# Altium schematic symbol library Components.SchLib: 85 symbols
Pins are listed as number, name and electrical type; pins without a type are passive.

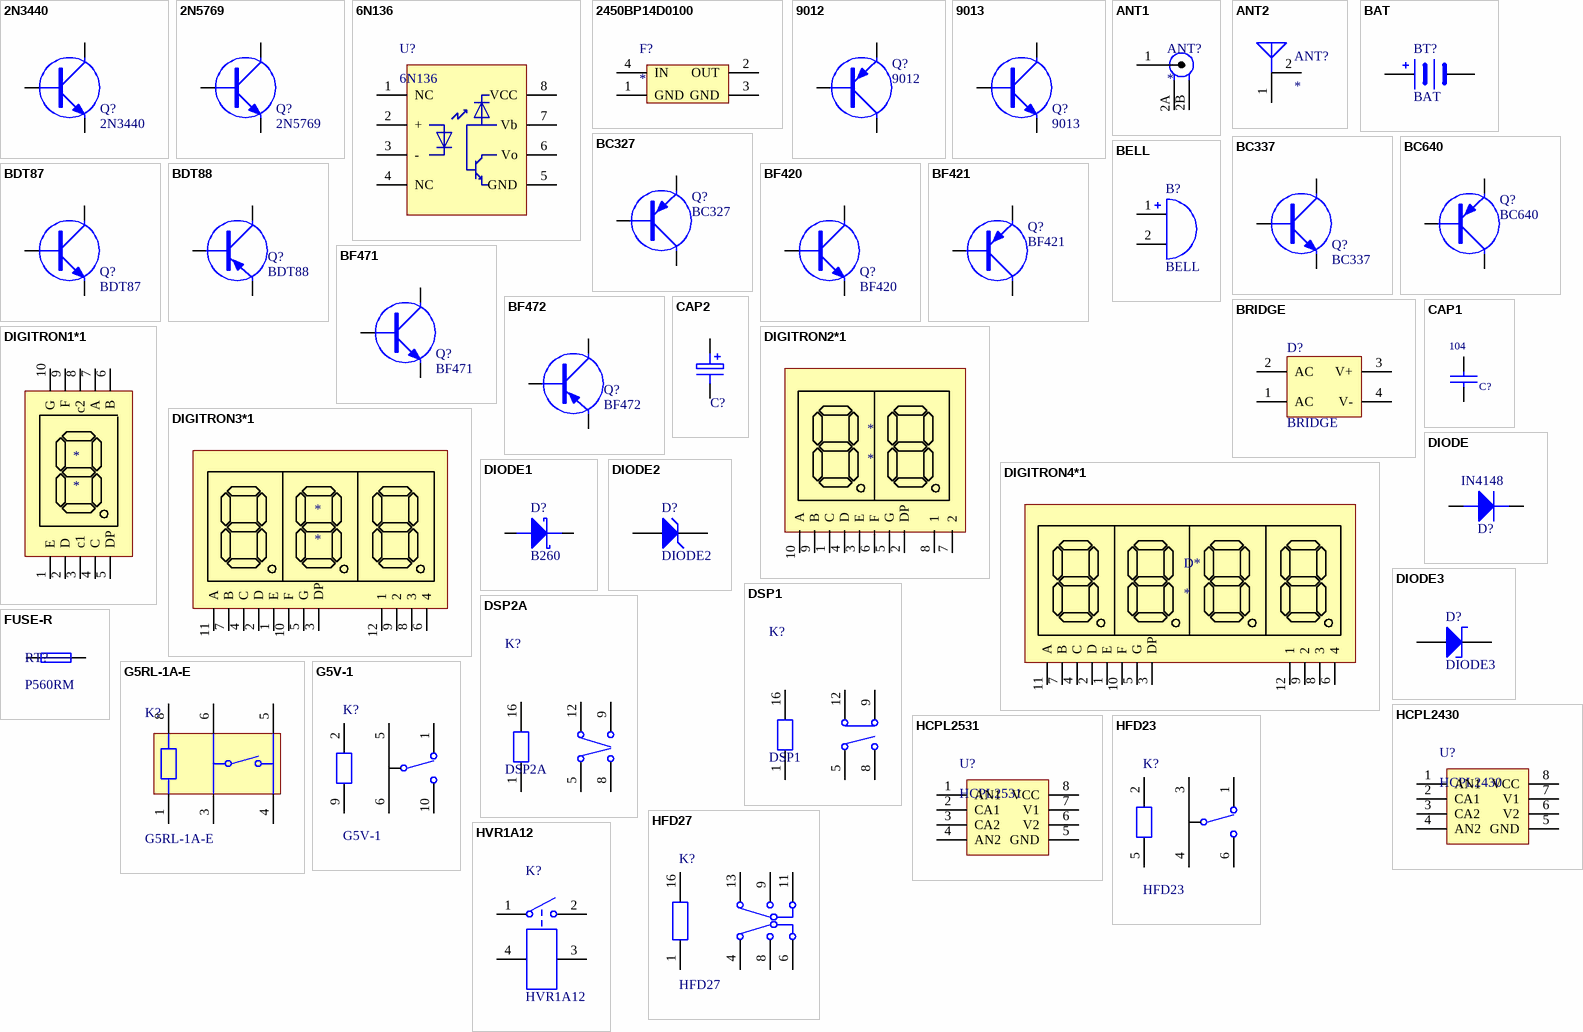
[diagram p0: symbols 2N3440 to HVR1A12]

## 2N3440
designator Q?
NPN Transistor
footprint TO-39 (Can; 3 Leads; Pin Circle Dia. 5.08 mm; Lead Dia. 0.48 mm (max))
pins: 1 E, 2 B, 3 C

## 2N5769
designator Q?
NPN Transistor
footprint TO-92
pins: 1 E, 2 B, 3 C

## 6N136
designator U?
footprint DIP8
pins: 1 NC, 2 +, 3 -, 4 NC, 5 GND, 6 Vo, 7 Vb, 8 VCC

## 2450BP14D0100
designator F?
2450BP14D0100
footprint 2450BP14D0100 (2450BP14D0100   RF  Filter)
pins: 1 GND, 2 OUT, 3 GND, 4 IN

## 9012
designator Q?
PNP Transistor
footprint SOT-23
pins: 1 B, 2 E, 3 C

## 9013
designator Q?
NPN Transistor
footprint SOT-23
pins: 1 B, 2 E, 3 C

## ANT1
designator ANT?
ANT
footprint CRF-101-001
pins: 1, 2A, 2B

## ANT2
designator ANT?
ANT
footprint pcb_ant_sm
pins: 1, 2

## BAT
designator BT?
Multicell Battery; Published: 24-Mar-1999; LatestRevisionDate: 17-Jul-2002; LatestRevisionNote: Re-released for DXP Platform.; PackageReference: BAT-2; Publisher: Altium Limited
footprint CR1220 (Battery Holder CR1220 3V)
pins: 1 +, 2 -

## BC327
designator Q?
PNP Transistor
footprint TO-92
pins: 1 C, 2 B, 3 E

## BC337
designator Q?
NPN Transistor
footprint TO-92
pins: 1 C, 2 B, 3 E

## BC640
designator Q?
PNP Transistor
footprint TO-92
pins: 1 E, 2 C, 3 B

## BDT87
designator Q?
NPN Transistor
footprint TO-220A2
pins: 1 B, 2 C, 3 E

## BDT88
designator Q?
PNP Transistor
footprint TO-220A2
pins: 1 B, 2 C, 3 E

## BELL
designator B?
Electrical Bell; Published: 24-Mar-1999; LatestRevisionDate: 17-Jul-2002; LatestRevisionNote: Re-released for DXP Platform.; PackageReference: PIN2; Publisher: Altium Limited
footprint BELL (bell 12*9.5mm)
pins: 1 A, 2 B

## BF420
designator Q?
NPN Transistor
footprint TO-92
pins: 1 E, 2 C, 3 B

## BF421
designator Q?
PNP Transistor
footprint TO-92
pins: 1 E, 2 C, 3 B

## BF471
designator Q?
NPN Transistor
footprint TO-126A2
pins: 1 E, 2 C, 3 B

## BF472
designator Q?
PNP Transistor
footprint TO-126A2
pins: 1 E, 2 C, 3 B

## BRIDGE
designator D?
Diode Bridge; Published: 24-Mar-1999; LatestRevisionDate: 17-Jul-2002; LatestRevisionNote: Re-released for DXP Platform.; PackageReference: D-46_6A; Publisher: Altium Limited
footprint SOIC-4
pins: 1 AC, 2 AC, 3 V+, 4 V-

## CAP1
designator C?, comment 104
Capacitor
footprint 0402C (1.0*0.5mm)
footprint 0603C (1.6*0.8mm)
footprint 0805C (2.0*1.25mm)
footprint 1210C (3.2*2.5mm)
footprint 1206C (3.2*1.6mm)
footprint CAP 5.08 (5.0*10mm)
pins: 1, 2

## CAP2
designator C?, comment 10uF  (value not drawn)
Electrolytic Capacitor
footprint CAP 2.0/5.0 (2.0*5.0mm)
footprint CAP 2.5/6.5 (2.5*6.5mm)
footprint CAP 3.5/8.0 (3.5*8.0mm)
footprint CAP 5.0/10 (5.0*10mm)
footprint CAP 5.0/13 (5.0*13mm)
footprint CAP 7.5/16 (7.5*16mm)
footprint 6032C (60*32mm)
footprint ALCAP10 (10mm)
footprint ALCAP8 (8mm)
footprint ALCAP6 (6mm)
footprint 7227C
footprint 7343C (73*43mm)
footprint 3528C (35*28mm)
footprint 3216C (32*16mm)
pins: 1, 2

## DIGITRON1*1
designator *
pins: 1 E, 2 D, 3 c1, 4 C, 5 DP, 6 B, 7 A, 8 c2, 9 F, 10 G

## DIGITRON2*1
designator *
pins: 1 C, 2 DP, 3 E, 4 D, 5 G, 6 F, 7 2, 8 1, 9 B, 10 A

## DIGITRON3*1
designator *
footprint DIGITRON3
pins: 1 E, 2 D, 3 DP, 4 C, 5 G, 6 4, 7 B, 8 3, 9 2, 10 F, 11 A, 12 1

## DIGITRON4*1
designator D*
footprint DIGITRON4
pins: 1 E, 2 D, 3 DP, 4 C, 5 G, 6 4, 7 B, 8 3, 9 2, 10 F, 11 A, 12 1

## DIODE
designator D?, comment IN4148
Diode
footprint 0603D (1.6*0.8mm SOD523)
footprint 0805D (2.0*1.25mm SOD323)
footprint 1206D (3.2*1.6mm)
footprint LL-34 (3.5*1.5mm)
footprint DIODE0.4
pins: 1 A, 2 K

## DIODE1
designator D?, comment B260
Schottky Diode; Published: 8-Jun-2000; LatestRevisionDate: 17-Jul-2002; LatestRevisionNote: Re-released for DXP Platform.; PackageReference: SMB; Publisher: Altium Limited; Code_JEDEC: DO-214-AA
footprint SMA (5.28*2.90mm)
footprint SMB (5.59*3.94mm)
footprint SMC (8.13*6.22)
footprint DIODE0.4
pins: 1 A, 2 K

## DIODE2
designator D?
Zener Diode; Published: 8-Jun-2000; LatestRevisionDate: 17-Jul-2002; LatestRevisionNote: Re-released for DXP Platform.; PackageReference: DIODE-0.7; Publisher: Altium Limited; PackageDescription: Diode, Thru-Hole; 2 Leads; 0.7 in Pin Spacing
signal-integrity model D Zener
footprint DIODE0.4
pins: 1 A, 2 K

## DIODE3
designator D?
Zener Diode; Published: 15-Apr-2002; LatestRevisionDate: 17-Jul-2002; LatestRevisionNote: Re-released for DXP Platform.; PackageReference: DIODE-0.4; Publisher: Altium Limited; PackageDescription: Diode, Thru-Hole; 2 Leads; 0.4 in Pin Spacing
footprint DIODE0.4
pins: 1 A, 2 K

## DSP1
designator K?
Published: 24-Mar-1999; LatestRevisionDate: 17-Jul-2002; LatestRevisionNote: Re-released for DXP Platform.; PackageReference: MODULE5B; Publisher: Altium Limited
footprint DSP2A
pins: 1, 5, 8, 9, 12, 16

## DSP2A
designator K?
Published: 24-Mar-1999; LatestRevisionDate: 17-Jul-2002; LatestRevisionNote: Re-released for DXP Platform.; PackageReference: MODULE5B; Publisher: Altium Limited
footprint DSP2A
pins: 1, 5, 8, 9, 12, 16

## FUSE-R
designator RT?, comment P560RM
footprint PTC (Resettable fuse)
footprint 1210 (3.2*2.5mm)
footprint 0805 (2.0*1.25mm)
footprint 1812 (4.8*3.2mm)
footprint FUSE15 (5*20  15mm)
pins: 1, 2

## G5RL-1A-E
designator K?
Published: 24-Mar-1999; LatestRevisionDate: 17-Jul-2002; LatestRevisionNote: Re-released for DXP Platform.; PackageReference: MODULE5B; Publisher: Altium Limited
footprint G5RL-1A-E
pins: 1, 3, 4, 5, 6, 8

## G5V-1
designator K?
Published: 24-Mar-1999; LatestRevisionDate: 17-Jul-2002; LatestRevisionNote: Re-released for DXP Platform.; PackageReference: MODULE5B; Publisher: Altium Limited
footprint G5V-1
pins: 1, 2, 5, 6, 9, 10

## HCPL2430
designator U?
footprint DIP8
pins: 1 AN1, 2 CA1, 3 CA2, 4 AN2, 5 GND, 6 V2, 7 V1, 8 VCC

## HCPL2531
designator U?
footprint DIP8
pins: 1 AN1, 2 CA1, 3 CA2, 4 AN2, 5 GND, 6 V2, 7 V1, 8 VCC

## HFD23
designator K?
Published: 24-Mar-1999; LatestRevisionDate: 17-Jul-2002; LatestRevisionNote: Re-released for DXP Platform.; PackageReference: MODULE5B; Publisher: Altium Limited
footprint HFD23
pins: 1, 2, 3, 4, 5, 6

## HFD27
designator K?
Published: 24-Mar-1999; LatestRevisionDate: 17-Jul-2002; LatestRevisionNote: Re-released for DXP Platform.; PackageReference: MODULE5B; Publisher: Altium Limited
footprint HFD27
pins: 1, 4, 6, 8, 9, 11, 13, 16

## HVR1A12
designator K?
Published: 24-Mar-1999; LatestRevisionDate: 17-Jul-2002; LatestRevisionNote: Re-released for DXP Platform.; PackageReference: MODULE5B; Publisher: Altium Limited
footprint HVR1A12
pins: 1, 2, 3, 4

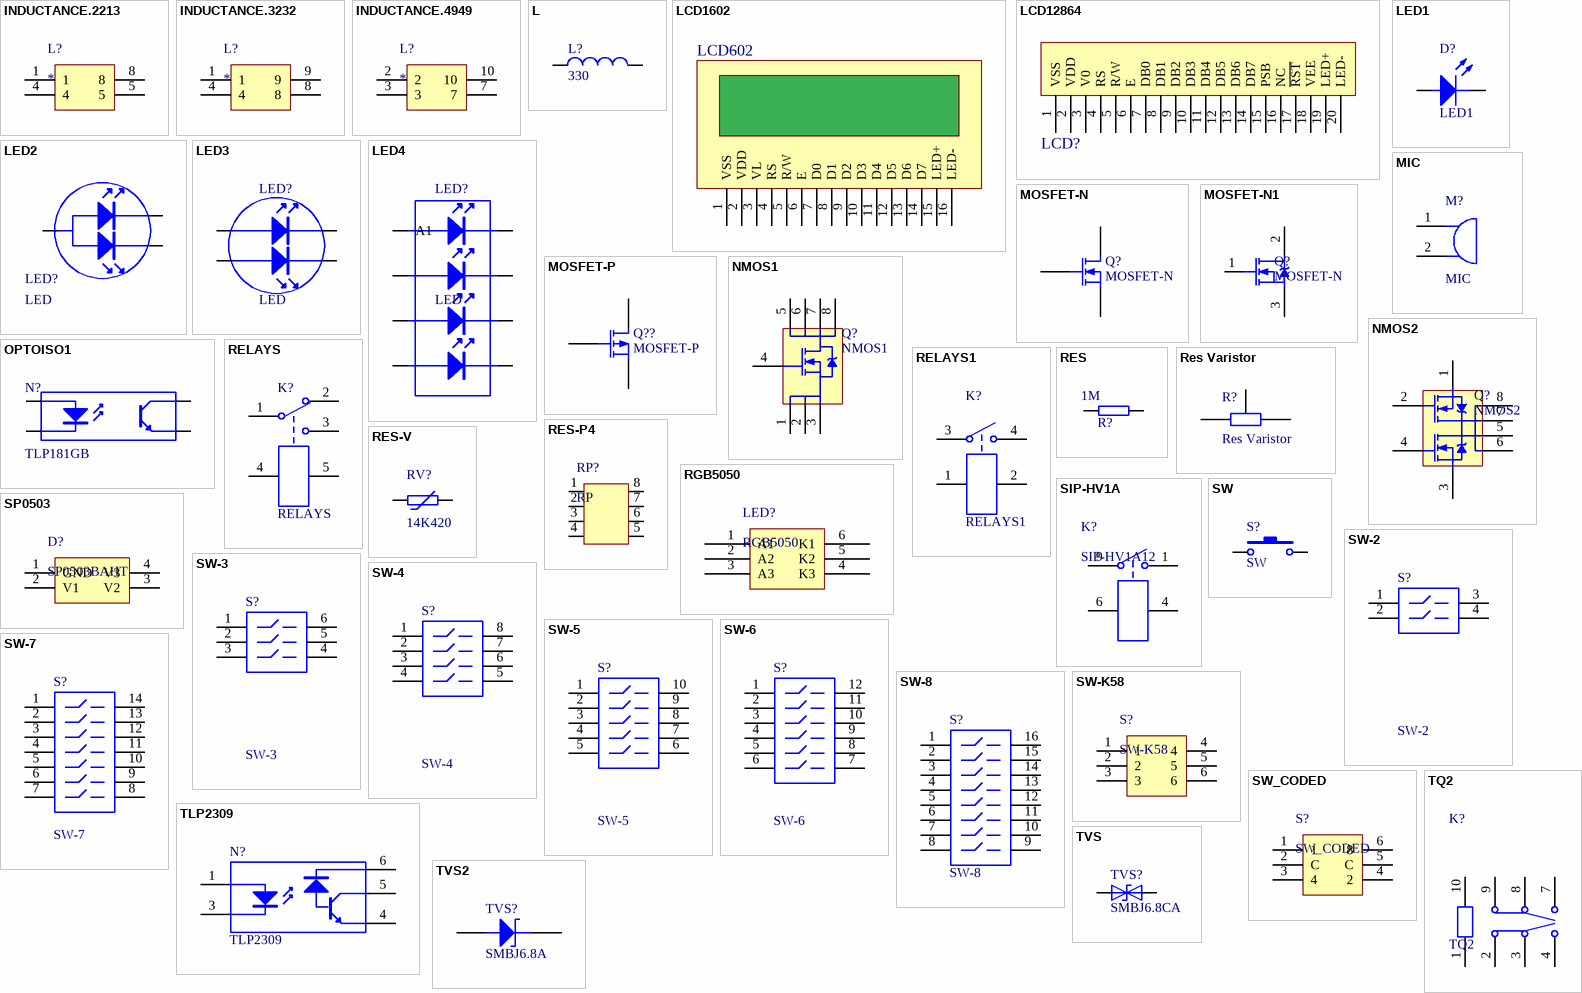
[diagram p1: symbols INDUCTANCE.2213 to TVS2]

## INDUCTANCE.2213
designator L?
Inductance
footprint Inductance.2213
pins: 1, 4, 5, 8

## INDUCTANCE.3232
designator L?
Inductance
footprint Inductance.3232
pins: 1, 4, 8, 9

## INDUCTANCE.4949
designator L?
Inductance
footprint Inductance.4949
pins: 2, 3, 7, 10

## L
designator L?, comment 330
Inductor; Code_IEC: 1005; Published: 8-Jun-2000; LatestRevisionDate: 29-May-2009; LatestRevisionNote: IPC-7351 Footprint Added.; PackageReference: 0402-A; Publisher: Altium Limited; PackageDescription: Chip Inductor; Code_JEITA: 0402
footprint L-10
footprint L-8
footprint 0603 (1.6*0.8mm)
footprint Inductance.0811 (20mH/100Hz)
footprint Inductance.1018 (20mH/100Hz)
footprint L-6
footprint 0805 (2.0*1.25mm)
footprint 1206 (3.2*1.6mm)
footprint 1008 (2.5*2.0mm)
footprint 0402 (1.0*0.5mm)
footprint L1212 (10mm)
pins: 1, 2

## LCD1602
designator *?, comment LCD602
pins: 1 VSS, 2 VDD, 3 VL, 4 RS, 5 R/W, 6 E, 7 D0, 8 D1, 9 D2, 10 D3, 11 D4, 12 D5, 13 D6, 14 D7, 15 LED+, 16 LED-
2 alternate drawings of the same symbol

## LCD12864
designator LCD?  (value not drawn)
pins: 1 VSS, 2 VDD, 3 V0, 4 RS, 5 R/W, 6 E, 7 DB0, 8 DB1, 9 DB2, 10 DB3, 11 DB4, 12 DB5, 13 DB6, 14 DB7, 15 PSB, 16 NC, 17 ~{RST}, 18 VEE, 19 LED+, 20 LED-
2 alternate drawings of the same symbol

## LED1
designator D?
Typical RED GaAs LED; Published: 8-Jun-2000; LatestRevisionDate: 08-Jul-2005; LatestRevisionNote: Mech Layer 1 removed.; PackageReference: LED-1; Publisher: Altium Limited
footprint 0603D (1.6*0.8mm SOD523)
footprint 0805D (2.0*1.25mm SOD323)
footprint LED05
footprint LED03 (LED 3mm)
footprint 3528D (35*28mm LED)
footprint 1206D (3.2*1.6mm)
pins: 1 A, 2 K

## LED2
designator LED?, comment LED
LED,Two Colour,Common anode,Three Pin
footprint LED03-2
footprint LED05-2
pins: A, G_K, R_K

## LED3
designator LED?, comment LED
LED,Two Colour,Four Pin
footprint LED03-HD-2 (led holder 3mm 2)
pins: A1, A2, K1, K2

## LED4
designator LED?, comment LED
footprint LED03-HD-4 (led holder 3mm 2)
footprint LED03-HD-4L (led holder 3mm 2)
pins: A1, A2, A3, A4, K1, K2, K3, K4

## MIC
designator M?
Published: 24-Mar-1999; LatestRevisionDate: 17-Jul-2002; LatestRevisionNote: Re-released for DXP Platform.; PackageReference: PIN2; Publisher: Altium Limited
footprint MIC (MIC 6*5mm)
pins: 1 A, 2 B

## MOSFET-N
designator Q?
N-Channel MOSFET; Published: 8-Jun-2000; LatestRevisionDate: 17-Jul-2002; LatestRevisionNote: Re-released for DXP Platform.; PackageVersion: 1995/1996; PackageReference: E3; Publisher: Altium Limited; PackageDescription: TO, Flat Index; 3 In-Line, Axial Leads; Body Dia. 4.6mm; Lead Dia. 0.5 mm (max)
footprint TO-92
pins: 1 D, 2 G, 3 S

## MOSFET-N1
designator Q?, comment MOSFET-N
N-Channel MOSFET; PackageDocument: 1995/1996; Published: 8-Jun-2000; LatestRevisionDate: 17-Jul-2002; LatestRevisionNote: Re-released for DXP Platform.; PackageReference: E3; Publisher: Altium Limited
footprint TO252-3 (D2-PAK)
pins: 1 G, 2 D, 3 S

## MOSFET-P
designator Q??
P-Channel MOSFET; Published: 8-Jun-2000; LatestRevisionDate: 17-Jul-2002; LatestRevisionNote: Re-released for DXP Platform.; PackageVersion: 1995/1996; PackageReference: E3; Publisher: Altium Limited; PackageDescription: TO, Flat Index; 3 In-Line, Axial Leads; Body Dia. 4.6mm; Lead Dia. 0.5 mm (max)
pins: 1 D, 2 G, 3 S

## NMOS1
designator Q?
N-Channel Power MOSFET; Note: Pin 2 is electrically connected to pin 4.; Published: 8-Jun-2000; LatestRevisionDate: 17-Jul-2002; LatestRevisionNote: Re-released for DXP Platform.; DatasheetVersion: PD-9.814; PackageReference: TO-220AB; Publisher: Altium Limited; Code_JEDEC: TO-220-AB; ComponentLink1Description: Manufacturer Link; ComponentLink1URL: http://www.irf.com/
footprint PAKSO8
pins: 1, 2, 3, 4, 5, 6, 7, 8

## NMOS2
designator Q?
N-Channel Power MOSFET; Note: Pin 2 is electrically connected to pin 4.; Published: 8-Jun-2000; LatestRevisionDate: 17-Jul-2002; LatestRevisionNote: Re-released for DXP Platform.; DatasheetVersion: PD-9.814; PackageReference: TO-220AB; Publisher: Altium Limited; Code_JEDEC: TO-220-AB; ComponentLink1Description: Manufacturer Link; ComponentLink1URL: http://www.irf.com/
footprint PAKSO8
pins: 1, 2, 3, 4, 5, 6, 7, 8

## OPTOISO1
designator N?, comment TLP181GB
Optoisolator
footprint DIP4
footprint SOP-4
pins: 1 A, 2 K, 3 E, 4 C

## RELAYS
designator K?
Single-Pole Dual-Throw Relay; Published: 24-Mar-1999; LatestRevisionDate: 17-Jul-2002; LatestRevisionNote: Re-released for DXP Platform.; PackageReference: MODULE5B; Publisher: Altium Limited
footprint RELAYS
pins: 1, 2, 3, 4, 5

## RELAYS1
designator K?
Published: 24-Mar-1999; LatestRevisionDate: 17-Jul-2002; LatestRevisionNote: Re-released for DXP Platform.; PackageReference: MODULE5B; Publisher: Altium Limited
footprint RELAYS1
pins: 1, 2, 3, 4

## RES
designator R?, comment 1M
Resistance
footprint 0402R (1.0*0.5mm)
footprint 0603R (1.6*0.8mm)
footprint 0805R (2.0*1.25mm)
footprint AXIAL0.4R
footprint AXIAL0.12R
footprint 1206R (3.2*1.6mm)
footprint 1812R (4.8*3.2mm)
footprint 2512R (6.35*3.2mm)
footprint R2 (R)
footprint AXIAL0.5R
footprint AXIAL0.6R
footprint AXIAL0.7R
footprint AXIAL0.8R
footprint AXIAL0.23R
footprint AXIAL0.4R-L
footprint AXIAL0.68R
footprint AXIAL0.9R
footprint AXIAL1.0R
footprint AXIAL1.1R
footprint AXIAL1.2R
footprint R3 (R)
footprint AXIAL0.16R
pins: 1, 2

## Res Varistor
designator R?
Varistor (Voltage-Sensitive Resistor); Published: 24-Mar-1999; LatestRevisionDate: 29-May-2009; LatestRevisionNote: IPC-7351 Footprint Added.; PackageVersion: Mar-2003; PackageReference: 6-0805; Publisher: Altium Limited; PackageDescription: Chip Resistor 0805 Case Size; Code_IPC: RESC2012
footprint R3296 (R 3296W)
footprint R1 (R)
footprint R3362P (R 3362P)
pins: 1, 2, 3

## RES-P4
designator RP?, comment RP
footprint 0603R4
pins: 1, 2, 3, 4, 5, 6, 7, 8

## RES-V
designator RV?, comment 14K420
footprint 14KVDR (14mm rem V)
footprint 10KVDR (10mm rem V)
footprint 07KVDR (7mm rem V)
pins: 1, 2

## RGB5050
designator LED?
footprint RGB5050
pins: 1 A1, 2 A2, 3 A3, 4 K3, 5 K2, 6 K1

## SIP-HV1A
designator K?, comment SIP-HV1A12
footprint SIP-HV1A (SIP-HV1A12)
pins: 1, 4, 6, 9

## SP0503
designator D?, comment SP0503BAHT
footprint SOT-143
pins: 1 GND, 2 V1, 3 V2, 4 V3

## SW
designator S?
Switch; Published: 24-Mar-1999; LatestRevisionDate: 17-Jul-2002; LatestRevisionNote: Re-released for DXP Platform.; PackageReference: SPST-2; Publisher: Altium Limited
footprint KEY-1
footprint KEY-2
footprint KEY-3 (3*6*2.5mm)
footprint KEY-4 (6*6*4.5mm)
footprint KEY-5 (6*6*4.5mm)
pins: 1, 2

## SW-2
designator S?
footprint DHN-4-1 (2.54mm)
pins: 1, 2, 3, 4

## SW-3
designator S?
footprint DHN-6-1 (2.54mm)
pins: 1, 2, 3, 4, 5, 6

## SW-4
designator S?
footprint DHN-8
footprint DHN-8-1 (2.54mm)
pins: 1, 2, 3, 4, 5, 6, 7, 8

## SW-5
designator S?
footprint DHN-10-1 (2.54mm)
pins: 1, 2, 3, 4, 5, 6, 7, 8, 9, 10

## SW-6
designator S?
footprint DHN-12
footprint DIP-W12
pins: 1, 2, 3, 4, 5, 6, 7, 8, 9, 10, 11, 12

## SW-7
designator S?
footprint DHN-14-1 (2.54mm)
pins: 1, 2, 3, 4, 5, 6, 7, 8, 9, 10, 11, 12, 13, 14

## SW-8
designator S?
footprint DHN-16
footprint DIP-W16
pins: 1, 2, 3, 4, 5, 6, 7, 8, 9, 10, 11, 12, 13, 14, 15, 16

## SW-K58
designator S?
footprint SW-K58
pins: 1, 2, 3, 4, 5, 6

## SW_CODED
designator S?
Rotary Coded Switch
footprint SW_CODED (Rotary Coded Switch)
footprint SW_CODED_S
pins: 1, 2 C, 3 4, 4 2, 5 C, 6 8

## TLP2309
designator N?
Optoisolator
footprint SOP-6
pins: 1, 3, 4, 5, 6

## TQ2
designator K?
Published: 24-Mar-1999; LatestRevisionDate: 17-Jul-2002; LatestRevisionNote: Re-released for DXP Platform.; PackageReference: MODULE5B; Publisher: Altium Limited
footprint TQ2
pins: 1, 2, 3, 4, 7, 8, 9, 10

## TVS
designator TVS?, comment SMBJ6.8CA
TVS
footprint SMA (5.28*2.90mm)
footprint SMB (5.59*3.94mm)
footprint SMC (8.13*6.22)
footprint TVS0.15
footprint TVS0.2
footprint SMA -TVS (5.28*2.90mm)
footprint SMB-TVS
pins: 1, 2

## TVS2
designator TVS?, comment SMBJ6.8A
TVS
footprint SMB
footprint SMA (5.28*2.90mm)
footprint SMC (8.13*6.22)
pins: 1 A, 2 K

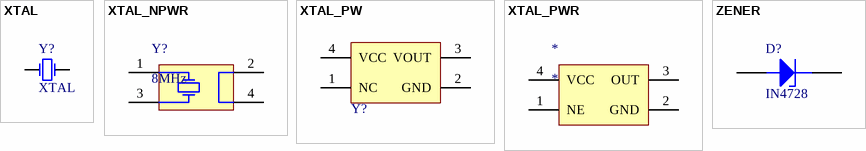
[diagram p2: symbols XTAL to ZENER]

## XTAL
designator Y?
Crystal Oscillator; Published: 8-Jun-2000; LatestRevisionDate: 17-Jul-2002; LatestRevisionNote: Re-released for DXP Platform.; PackageReference: R38; Publisher: Altium Limited
footprint XTAL-1.6 (small 32.768kHz)
footprint XTAL-5.0-2 (two hole xtal)
footprint XTAL-5.0-2-T (two xtal)
footprint XTAL-3215 (SMD 2 pin 32*15)
pins: 1 OSC1, 2 OSC2

## XTAL_NPWR
designator Y?, comment 8MHz
XTAL_NPWR
footprint XTAL-2520 (SMD 4 pin 25*20)
pins: 1, 2, 3, 4

## XTAL_PW
designator Y?, comment 有源晶振荡器50Mhz 7050  (value not drawn)
footprint XTAL-5032 (SMD 4 pin 50*32)
footprint XTAL-7050
pins: 1 NC, 2 GND, 3 VOUT, 4 VCC
2 alternate drawings of the same symbol

## XTAL_PWR
designator *
footprint XTAL-5032 (SMD 4 pin 50*32)
footprint XTAL-7050
pins: 1 NE, 2 GND, 3 OUT, 4 VCC

## ZENER
designator D?, comment IN4728
Zener Diode
footprint SMB
footprint LL-34 (3.5*1.5mm)
footprint SMA (5.28*2.90mm)
pins: 1 A, 2 K